# EAGLE library part ERC240120FS-1 (library lcd)
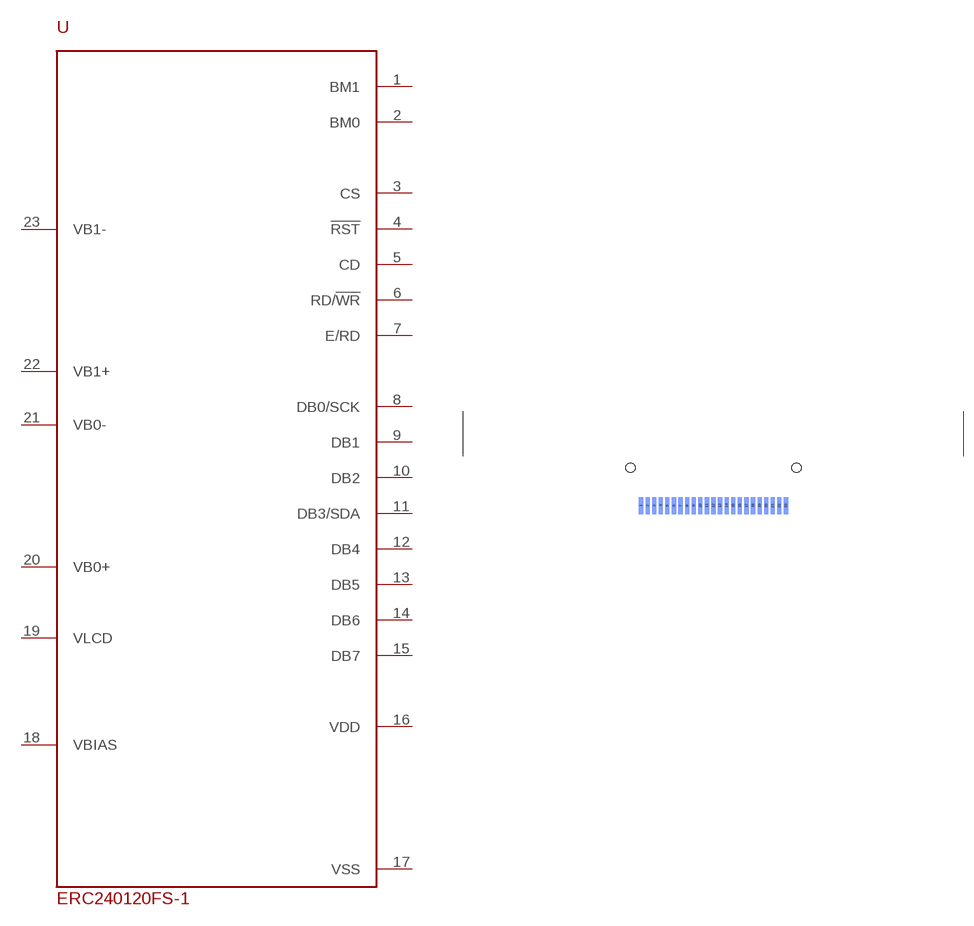
[diagram p0: symbol with the pads of ERC240120FS-1; footprint ERC240120FS-1]

Designator prefix -

## ERC240120FS-1  [ERC240120FS-1]
1  BM1  pwr
2  BM0  pwr
3  CS  in
4  !RST  in
5  CD  in
6  RD/!WR  in
7  E/RD  in
8  DB0/SCK
9  DB1
10  DB2
11  DB3/SDA
12  DB4
13  DB5
14  DB6
15  DB7
16  VDD  pwr
17  VSS  pwr
18  VBIAS  in
19  VLCD  in
20  VB0+  in
21  VB0-  in
22  VB1+  in
23  VB1-  in

## Footprint ERC240120FS-1 (pad centres in mm)
smd 0.635 x 2.54 bottom: 1 -11,13; 2 -10,13; 3 -9,13; 4 -8,13; 5 -7,13; 6 -6,13; 7 -5,13; 8 -4,13; 9 -3,13; 10 -2,13; 11 -1,13; 12 0,13; 13 1,13; 14 2,13; 15 3,13; 16 4,13; 17 5,13; 18 6,13; 19 7,13; 20 8,13; 21 9,13; 22 10,13; 23 11,13
hole 1.4 at -12.6,18.75
hole 1.4 at 12.6,18.75